# Altium footprint library PcbLib1.PcbLib: 202 footprints (part 13 of 13)
Each footprint in its own frame and in the unit in brackets; x right, y up, seen from the top. Pads: shape width x height; smd on the part's side, far side on the other; paste and mask are expansions set on the pad; w line width, h text height; cw(c..) or ccw(c..) is an arc to the next point about the centre after c.
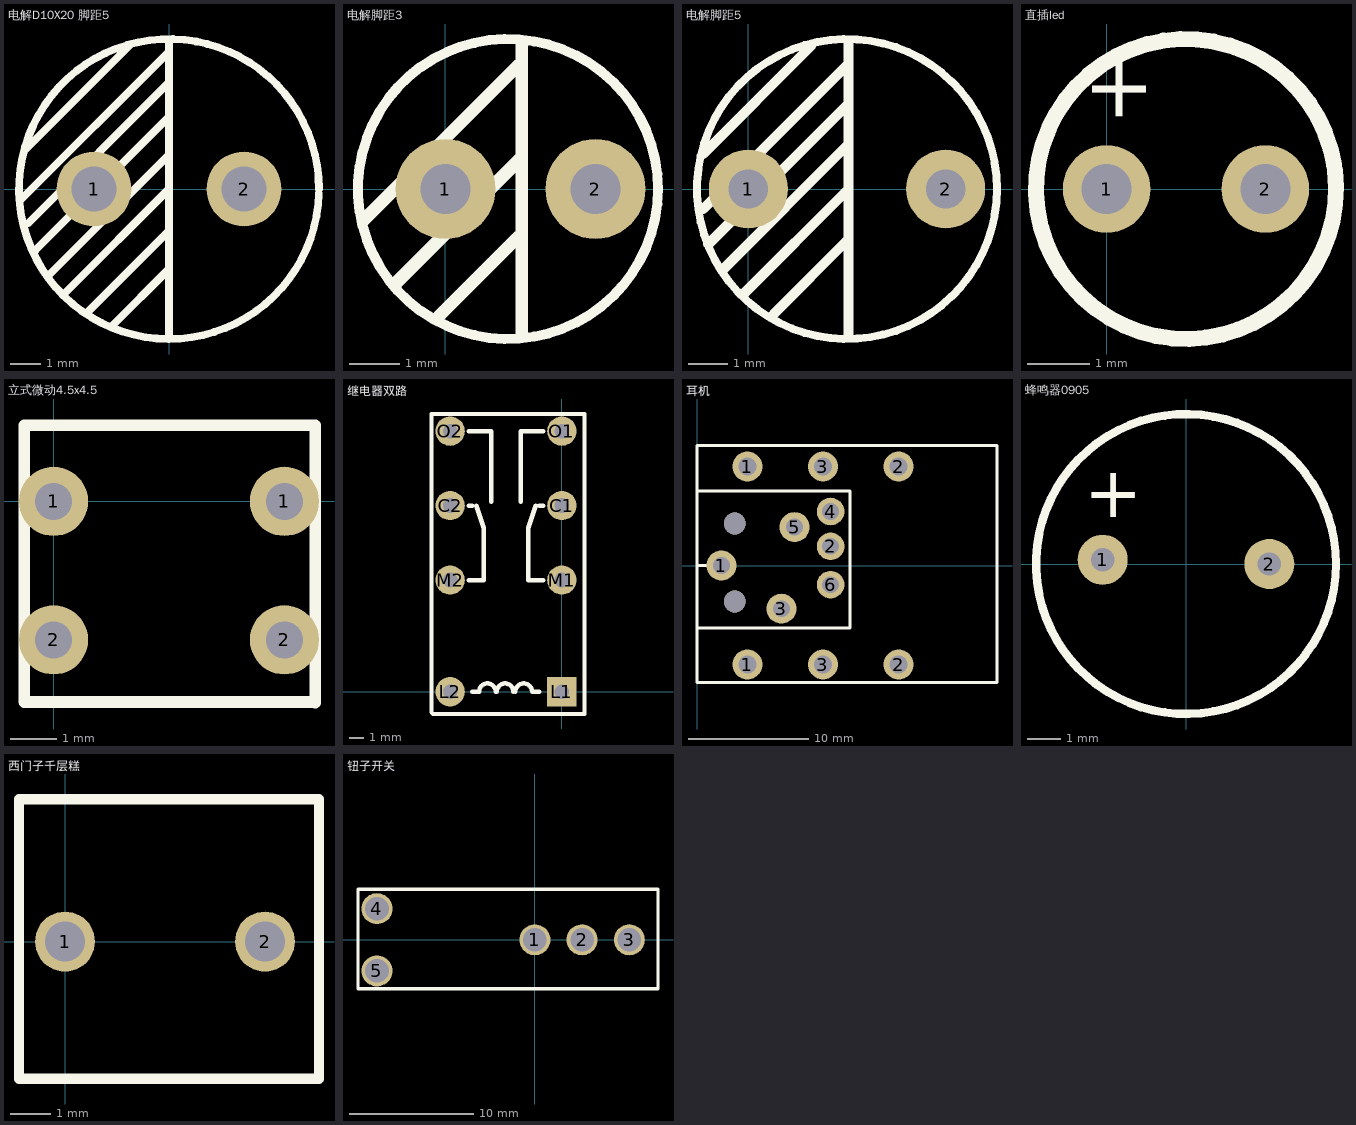
[diagram p12: the footprints below, top view; thin cyan lines are the x and y axes]

## 电解D10X20 脚距5 [mm]
height 20
pads (2):
  round 2.5 hole 1.5: 1(-2.5,0) 2(2.5,0)
Top Overlay:
  lines w0.254: -4.953,-0.381 0,4.572 ; -4.826,1.27 -1.27,4.826 ; -4.699,-1.143 0,3.556 0,2.413 -4.445,-2.032 ; -4.064,-2.921 0,1.143 ; -3.429,-3.429 0,0 ; -2.667,-4.064 0,-1.397 ; -1.905,-4.572 0,-2.667 ; 0,-4.953 0,4.953 ; 4.998,-0.147 cw(c0,0) 5,0

## 电解脚距3 [mm]
pads (2):
  round 2 hole 1: 1(0,0) 2(3,0)
Top Overlay:
  circle w0.2: c1.25,0 r3
  lines w0.254: -1.651,-0.635 1.46,2.476 ; -1.016,-1.905 1.524,0.635 ; -0.127,-2.54 1.46,-0.953 ; 1.524,-2.921 1.524,2.921

## 电解脚距5 [mm]
pads (2):
  round 2 hole 1: 1(0,0) 2(5,0)
Top Overlay:
  circle w0.2: c2.5,0 r3.8
  lines w0.254: -1.143,-0.508 2.54,3.175 ; -1.143,0.889 1.587,3.619 ; -1.016,-1.397 2.54,2.159 2.54,1.143 ; -0.635,-2.032 2.54,1.143 ; -0.127,-2.667 2.54,0 2.54,0.254 2.54,1.143 ; 0.635,-3.175 2.54,-1.27 2.54,-1.016 ; 2.54,-3.683 2.54,3.683

## 直插led [mm]
pads (2):
  round 1.4 hole 0.8: 1(0,0) 2(2.54,0)
Top Overlay:
  lines w0.254: 3.64,0.379 ccw(c1.27,0) 3.651,0.298
  text "+" at 0.635,1.016 h1.02

## 立式微动4.5x4.5 [mm]
pads (4):
  round 1.5 hole 0.8: 1(0,0) 1(5,0) 2(0,-3) 2(5,-3)
Top Overlay:
  lines w0.254: 5.65,-4.349 -0.635,-4.349 -0.635,1.651 5.365,1.651 5.667,1.651 5.667,-4.366

## 继电器双路 [mm]
pads (8):
  round 2 hole 1: C1(0,12.7) C2(-7.62,12.7) L2(-7.62,0) M1(0,7.62) M2(-7.62,7.62) O1(0,17.78) O2(-7.62,17.78)
  rect 2x2 hole 1: L1(0,0)
Top Overlay:
  lines w0.3: -8.894,-1.414 -8.894,18.948 1.52,18.948 1.55,18.918 1.55,18.41 1.55,-1.52 -8.45,-1.52 -8.788,-1.52
  lines w0.305: -6.35,7.62 -5.334,7.62 -5.334,11.176 -5.842,12.7 ; -6.35,12.7 -6.096,12.7 ; -6.35,17.78 -4.826,17.78 -4.826,12.954 ; -6.096,0 -5.648,0 cw(c-5.08,0) -4.512,0 ; -4.438,0 cw(c-3.87,0) -3.302,0 ; -3.168,0 cw(c-2.6,0) -2.032,0 -1.524,0 ; -2.794,12.954 -2.794,17.78 -1.27,17.78 ; -1.778,12.7 -2.286,11.176 -2.286,7.62 -1.27,7.62 ; -1.524,12.7 -1.27,12.7

## 耳机 [mm]
pads (12):
  round 2.5 hole 1.4: 1(2.032,0) 3(7.032,-3.6) 5(8.132,3.2)
  round 2.5 hole 1.5: 1(4.2,-8.25) 1(4.2,8.25) 2(16.8,-8.25) 2(16.8,8.25) 3(10.5,-8.25) 3(10.5,8.25)
  round 2.3 hole 1.4: 2(11.132,1.6) 4(11.132,4.5) 6(11.132,-1.6)
via 3.132,-3 diameter 1.8 hole 1.8
via 3.132,3.5 diameter 1.8 hole 1.8
Top Overlay:
  lines w0.254: 0,0.254 0,-9.746 25,-9.746 25,10 0,10 0,0 2.032,0 ; 0,-5.207 0,6.223 12.746,6.223 12.746,-5.207 0,-5.207

## 蜂鸣器0905 [mm]
pads (2):
  round 1.5 hole 0.7: 1(-2.5,0.127) 2(2.5,0)
Top Overlay:
  circle w0.254: c0,0 r4.5
  text "+" at -3.048,1.397 h1.52

## 西门子千层糕 [mm]
pads (2):
  round 1.5 hole 1: 1(0,0) 2(5,0)
Top Overlay:
  lines w0.254: -1.15,-3.429 6.35,-3.429 6.35,3.556 -1.15,3.556 -1.15,-3.429

## 钮子开关 [mm]
pads (5):
  round 2.5 hole 1.9: 1(0,0) 2(3.8,0) 3(7.6,0) 4(-12.7,2.5) 5(-12.7,-2.5)
Top Overlay:
  lines w0.254: -14.224,-3.936 -14.224,4.064 9.906,4.064 ; -14.223,-3.937 9.906,-3.937 9.906,4.063